# EAGLE library part TSR_0.5-2450SM (library SamacSys_Parts)
0.5 Amp POL switching regulator, 4.75 to -32 VDC input, pos.-pos. circuit, SMD package Source: Datasheet <https://tracopower.com/tsr0-5sm-datasheet/>
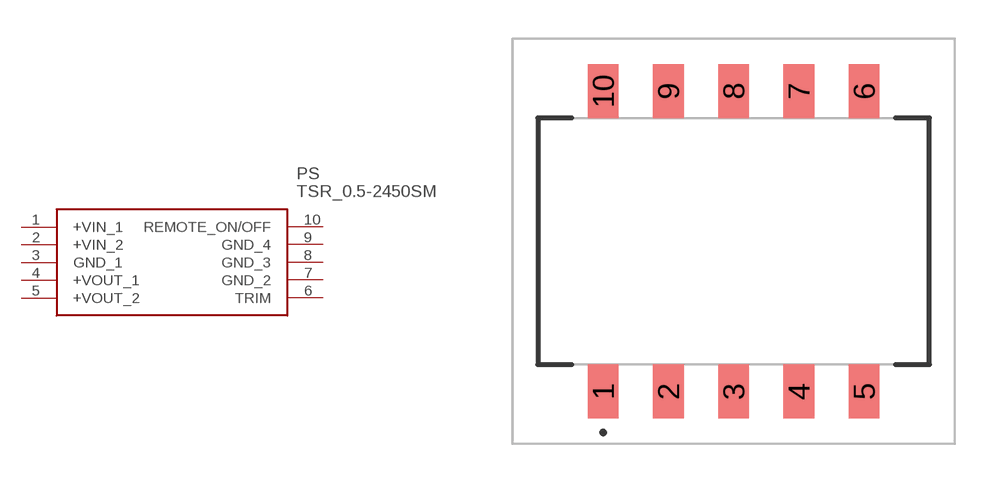
[diagram p10: symbol with the pads of TSR052450SM; footprint TSR052450SM]

Designator prefix PS

## TSR_0.5-2450SM (DESCRIPTION: 0.5 Amp POL switching regulator, 4.75 to -32 VDC input, pos.-pos. circuit, SMD package; HEIGHT: 9.74mm; MANUFACTURER_NAME: Traco Power; MANUFACTURER_PART_NUMBER: TSR 0.5-2450SM; MOUSER_PART_NUMBER: 495-TSR0.5-2450SM; MOUSER_PRICE-STOCK: https://www.mouser.co.uk/ProductDetail/TRACO-Power/TSR-0.5-2450SM?qs=ckJk83FOD0WInJhRIxWPwQ%3D%3D)  [TSR052450SM]
1  +VIN_1
2  +VIN_2
3  GND_1
4  +VOUT_1
5  +VOUT_2
6  TRIM
7  GND_2
8  GND_3
9  GND_4
10  REMOTE_ON/OFF

## Footprint TSR052450SM (pad centres in mm)
TSR 0.5-2450SM-1
smd 1.2 x 2.1: 1 -5.08,-5.85; 2 -2.54,-5.85; 3 0,-5.85; 4 2.54,-5.85; 5 5.08,-5.85; 6 5.08,5.85; 7 2.54,5.85; 8 0,5.85; 9 -2.54,5.85; 10 -5.08,5.85